# Altium schematic symbol library Lipol_battery_charger.SchLib: 4 symbols
Pins are listed as number, name and electrical type; pins without a type are passive.

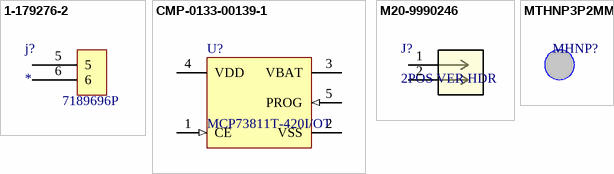
[diagram p0: symbols 1-179276-2 to MTHNP3P2MM]

## 1-179276-2
designator j?  Supplier Part Number 1: 7189696P
DYNAMIC 3200 HDR ASSY 2P H; Manufacture: TE connectivity; Manufacture part Number: 1-179276-2; Supplier 1: Rs; ComponentLink1Description: product URL; ComponentLink1URL: https://octopart.com/search?q=1-179276-2&filter%5Bfields%5D%5Bbrand.name%5D%5B%5D=TE+Connectivity
footprint 1-179276-2 (2_PCS_HDR_19.08X22.1MM)
pins: 5, 6

## CMP-0133-00139-1
designator U?, comment MCP73811T-420I/OT
Simple, Miniature Single-Cell, Fully Integrated Li-Ion/Li-Polymer Charge Management Controller, 4.2V, 5-Pin SOT-23, Industrial Temperature, Tape and Reel; Code_IPC: SOT23-5; PackageDescription: 5-Lead Plastic Small Outline Transistor (OT) [SOT-23]; PackageVersion: revBB, Aug-2009; DatasheetVersion: revB, Sep-2007; PackageReference: SOT-23-OT5
footprint SOT-23-OT5_L (SOT23, 5-Leads, Body 2.9x1.7mm, Pitch 0.95mm, Lead Span 2.8mm, IPC High Density)
pins: 1 CE (in), 2 VSS (power), 3 VBAT (power), 4 VDD (power), 5 PROG (in)

## M20-9990246
designator J?, comment 2POS VER HDR
Connector Header Through Hole 2 position 0.100" (2.54mm); Mfr_Name: Harwin; RefDes: RefDes; Type: Type; ComponentLink1Description: New link; ComponentLink1URL: *; ComponentLink2Description: New link 1; ComponentLink2URL: https://www.digikey.com/en/products/detail/harwin-inc/M20-9990246/3728226
footprint CONN2_M20-999_1x2_HRW (Footprint not found)
pins: 1, 2

## MTHNP3P2MM
designator MHNP?, comment Mounting hole non plated 3.2mm  (value not drawn)
Mounting hole non plated 3.2mm drill hole
footprint MHNP3P2MM (Mountimg hole non plated 3.2mm)